# Altium schematic symbol library Switch.SchLib: 3 symbols
Pins are listed as number, name and electrical type; pins without a type are passive.

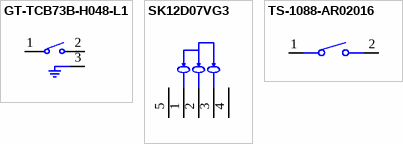
[diagram p0: symbols GT-TCB73B-H048-L1 to TS-1088-AR02016]

## GT-TCB73B-H048-L1
designator SW??  (value not drawn)
Manufacturer: G-Switch(品赞); Add into BOM: yes; Contact Current: 50mA; Voltage Rating (DC): 12V; Insulation Resistance: 100MΩ; Circuit: 单刀单掷; Actuator Style: 圆形按钮; Actuator/Cap Color: 黑色; With Lamp: 无; Operating Force: 250gf@±30gf; Mechanical Life: 10万次; Pin Style: PC引脚; Switch Length: 4.5mm; Switch Height: 4.8mm; Strike Gundam: 否; Name: GT-TCB73B-H048-L1; Symbol: GT-TCB73B-H048-L1; Device: GT-TCB73B-H048-L1; LCSC Part Name: 4.5*4.5*4.8mm 卧插 轻触开关; Supplier Part: C2890354; Manufacturer Part: GT-TCB73B-H048-L1; Supplier Footprint: 插件; JLCPCB Part Class: Extended Part; Datasheet: https://atta.szlcsc.com/upload/public/pdf/source/20211129/A9DBC36F7854845B7C58D6A3B2089FE3.pdf; Supplier: LCSC; Convert to PCB: yes; Mounting Style: 卧插; Operating Temperature: -30℃~+85℃; Switch Width: 4.5mm
footprint SW-TH_G-SWITCH_GT-TCB73B-H048-L1
3D model SW-TH_G-SWITCH_GT-TCB73B-H048-L1
pins: 1, 2, 3

## SK12D07VG3
designator SW??  (value not drawn)
Manufacturer: SHOU HAN(首韩); Symbol: SK12D07VG3_C431547; Add into BOM: yes; Name: SK12D07VG3; Device: SK12D07VG3; LCSC Part Name: 两档位卧式拨动开关,柄长3MM; Supplier Part: C431547; Manufacturer Part: SK12D07VG3; Supplier Footprint: 插件; JLCPCB Part Class: Extended Part; Datasheet: https://atta.szlcsc.com/upload/public/pdf/source/20190925/C431547_01B93C6F3FA5C09E15F8CCBF4E6DB91A.pdf; Supplier: LCSC; Convert to PCB: yes
footprint SW-TH_SK12D07VG3
3D model SW-TH_SK12D07VG3
pins: 1, 2, 3, 4, 5

## TS-1088-AR02016
designator SW??  (value not drawn)
Manufacturer: XUNPU(讯普); Add into BOM: yes; Contact Current: 50mA; Voltage Rating (DC): 12V; Insulation Resistance: 100MΩ; Circuit: 单刀单掷; Actuator Style: 圆形按钮; Actuator/Cap Color: 黑色; Operating Force: 160gf@±50gf; Mechanical Life: 10万次; Pin Style: SMD接片; Switch Length: 4mm; Switch Width: 3mm; Switch Height: 2mm; Strike Gundam: 否; Name: TS-1088-AR02016; Symbol: TS-1088-AR02016; Device: TS-1088-AR02016; LCSC Part Name: 4*3*2mm 立贴 轻触开关; Supplier Part: C720477; Manufacturer Part: TS-1088-AR02016; Supplier Footprint: SMD; JLCPCB Part Class: Extended Part; Datasheet: https://atta.szlcsc.com/upload/public/pdf/source/20200810/C720475_60D09DD6C54279ADDB2DC25100F1CC11.pdf; Supplier: LCSC; Convert to PCB: yes; Mounting Style: 立贴; Operating Temperature: -30℃~+80℃
footprint SW-SMD_L3.9-W3.0-P4.45
3D model SW-SMD_L3.9-W2.9-H2.0-LS4.8
pins: 1, 2